# Altium integrated library Diodes - TVS.IntLib: 5379 symbols (part 20 of 122)
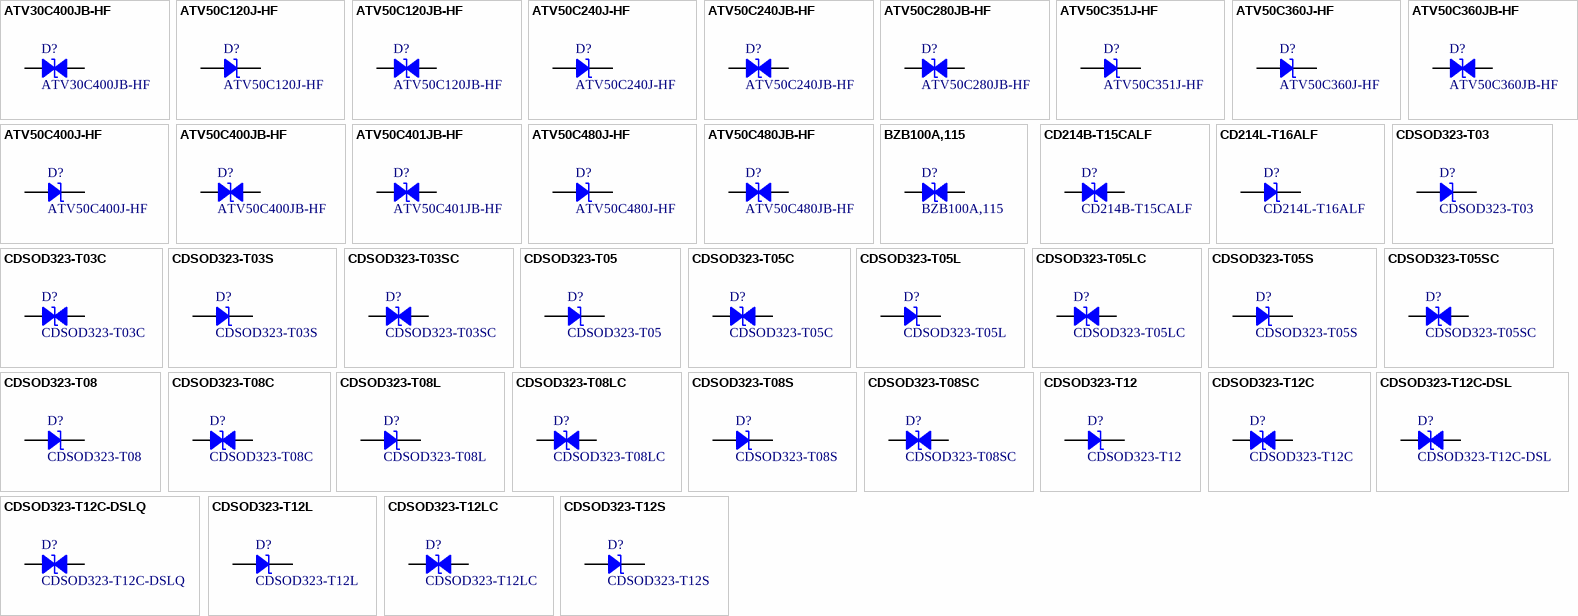
[diagram p153: symbols ATV30C400JB-HF to CDSOD323-T12S]

## CDSOD323-T12LC
designator D?
TVS DIODE 12V 28.6V SOD323; Manufacturer: Bourns Inc.; Bidirectional Channels: 1; Capacitance @ Frequency: 1pF @ 1MHz; Current - Peak Pulse (10/1000µs): 11A (8/20µs); Power Line Protection: No; Power - Peak Pulse: 250W; Type: Zener; Voltage - Breakdown (Min): 13.3V; Voltage - Clamping (Max) @ Ipp: 28.6V (Typ); Part Number: CDSOD323-T12LC; Applications: HDMI, USB OTG; ComponentLink1Description: Datasheet; ComponentLink1URL: https://www.bourns.com/docs/Product-Datasheets/CDSOD323-TxxLC.pdf; ComponentLink2Description: DigiKey Link; ComponentLink2URL: http://digikey.com/product-detail/en/bourns-inc/CDSOD323-T12LC/CDSOD323-T12LCCT-ND/3742032; LastUpdated: 9/2/2020 1:28:28 AM; Lifecycle Status: Active; Minimum Order: 1; Mounting Type: Surface Mount; Operating Temperature: -55°C ~ 150°C (TJ); Package / Case: SC-76, SOD-323; Packaging: TapeAndReel; PartId: 9918; Part Status: Active; Price: 0.29; Series: -; Supplier 1: DigiKey; Supplier Part Number 1: CDSOD323-T12LCCT-ND; Supplier Device Package: SOD-323; Voltage - Reverse Standoff (Typ): 12V
footprint SOD323
pins: 1, 2

## CDSOD323-T12S
designator D?
TVS DIODE 12V 25.9V SOD323; Manufacturer: Bourns Inc.; Capacitance @ Frequency: 150pF @ 1MHz; Current - Peak Pulse (10/1000µs): 21A (8/20µs); Power Line Protection: No; Power - Peak Pulse: 500W; Type: SC-76, SOD-323; Unidirectional Channels: 1; Voltage - Breakdown (Min): 13.3V; Voltage - Clamping (Max) @ Ipp: 25.9V (Typ); Part Number: CDSOD323-T12S; Applications: General Purpose; ComponentLink1Description: Datasheet; ComponentLink1URL: https://www.bourns.com/docs/Product-Datasheets/CDSOD323-TxxSC.pdf; ComponentLink2Description: DigiKey Link; ComponentLink2URL: http://digikey.com/product-detail/en/bourns-inc/CDSOD323-T12S/CDSOD323-T12S-ND/3781958; LastUpdated: 9/2/2020 1:28:26 AM; Lifecycle Status: Active; Minimum Order: 3000; Mounting Type: Surface Mount; Operating Temperature: -55°C ~ 150°C (TJ); Package / Case: SC-76, SOD-323; Packaging: TapeAndReel; PartId: 9835; Part Status: -55°C ~ 150°C (TJ); Price: 0.18; Series: -; Supplier 1: DigiKey; Supplier Part Number 1: CDSOD323-T12S-ND; Supplier Device Package: SOD-323; Voltage - Reverse Standoff (Typ): 12V
footprint SOD323
pins: 1, 2

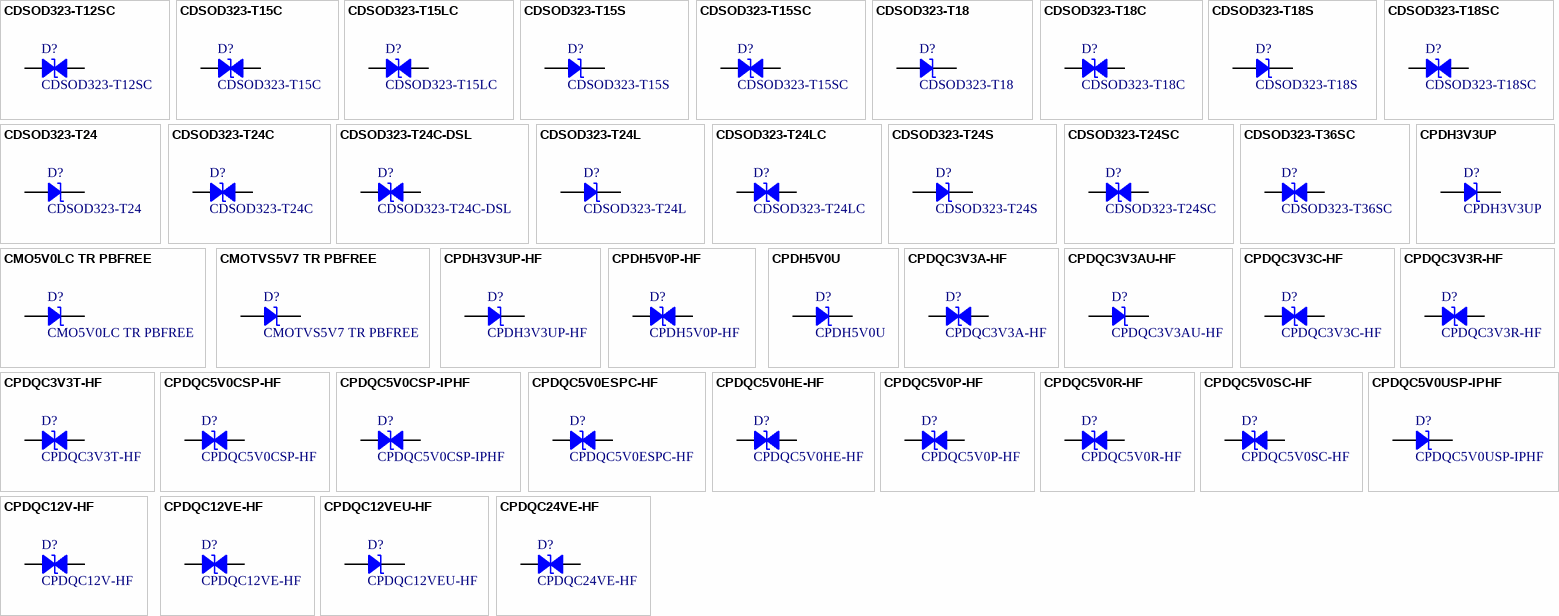
[diagram p21: symbols CDSOD323-T12SC to CPDQC24VE-HF]

## CDSOD323-T12SC
designator D?
TVS DIODE 12V 29.5V SOD323; Manufacturer: Bourns Inc.; Bidirectional Channels: 1; Capacitance @ Frequency: 50pF @ 1MHz; Current - Peak Pulse (10/1000µs): 14A (8/20µs); Power Line Protection: No; Power - Peak Pulse: 400W; Type: Zener; Voltage - Breakdown (Min): 13.3V; Voltage - Clamping (Max) @ Ipp: 29.5V (Typ); Part Number: CDSOD323-T12SC; Applications: General Purpose; ComponentLink1Description: Datasheet; ComponentLink1URL: https://www.bourns.com/docs/Product-Datasheets/CDSOD323-TxxSC.pdf; ComponentLink2Description: DigiKey Link; ComponentLink2URL: http://digikey.com/product-detail/en/bourns-inc/CDSOD323-T12SC/CDSOD323-T12SCCT-ND/3742033; LastUpdated: 9/2/2020 1:28:29 AM; Lifecycle Status: Active; Minimum Order: 1; Mounting Type: Surface Mount; Operating Temperature: -55°C ~ 150°C (TJ); Package / Case: SC-76, SOD-323; Packaging: TapeAndReel; PartId: 9956; Part Status: Active; Price: 0.23; Series: -; Supplier 1: DigiKey; Supplier Part Number 1: CDSOD323-T12SCCT-ND; Supplier Device Package: SOD-323; Voltage - Reverse Standoff (Typ): 12V
footprint SOD323
pins: 1, 2

## CDSOD323-T15C
designator D?
TVS DIODE 15V 31.8V SOD323; Manufacturer: Bourns Inc.; Bidirectional Channels: 1; Capacitance @ Frequency: 3pF @ 1MHz; Current - Peak Pulse (10/1000µs): 10A (8/20µs); Power Line Protection: No; Power - Peak Pulse: 350W; Type: Zener; Voltage - Breakdown (Min): 16.7V; Voltage - Clamping (Max) @ Ipp: 31.8V (Typ); Part Number: CDSOD323-T15C; Applications: General Purpose; ComponentLink1Description: Datasheet; ComponentLink1URL: https://www.bourns.com/docs/Product-Datasheets/CDSOD323-TxxC.PDF; ComponentLink2Description: DigiKey Link; ComponentLink2URL: http://digikey.com/product-detail/en/bourns-inc/CDSOD323-T15C/CDSOD323-T15CCT-ND/3742034; LastUpdated: 9/2/2020 1:28:29 AM; Lifecycle Status: Active; Minimum Order: 1; Mounting Type: Surface Mount; Operating Temperature: -55°C ~ 150°C (TJ); Package / Case: SC-76, SOD-323; Packaging: TapeAndReel; PartId: 9946; Part Status: Active; Price: 0.26; Series: -; Supplier 1: DigiKey; Supplier Part Number 1: CDSOD323-T15CCT-ND; Supplier Device Package: SOD-323; Voltage - Reverse Standoff (Typ): 15V
footprint SOD323
pins: 1, 2

## CDSOD323-T15LC
designator D?
TVS DIODE 15V 31.8V SOD323; Manufacturer: Bourns Inc.; Bidirectional Channels: 1; Capacitance @ Frequency: 1pF @ 1MHz; Current - Peak Pulse (10/1000µs): 10A (8/20µs); Power Line Protection: No; Power - Peak Pulse: 250W; Type: Zener; Voltage - Breakdown (Min): 16.7V; Voltage - Clamping (Max) @ Ipp: 31.8V (Typ); Part Number: CDSOD323-T15LC; Applications: HDMI, USB OTG; ComponentLink1Description: Datasheet; ComponentLink1URL: https://www.bourns.com/docs/Product-Datasheets/CDSOD323-TxxLC.pdf; ComponentLink2Description: DigiKey Link; ComponentLink2URL: http://digikey.com/product-detail/en/bourns-inc/CDSOD323-T15LC/CDSOD323-T15LCCT-ND/3997647; LastUpdated: 9/2/2020 1:28:29 AM; Lifecycle Status: Active; Minimum Order: 1; Mounting Type: Surface Mount; Operating Temperature: -55°C ~ 150°C (TJ); Package / Case: SC-76, SOD-323; Packaging: TapeAndReel; PartId: 9935; Part Status: Active; Price: 0.29; Series: -; Supplier 1: DigiKey; Supplier Part Number 1: CDSOD323-T15LCCT-ND; Supplier Device Package: SOD-323; Voltage - Reverse Standoff (Typ): 15V
footprint SOD323
pins: 1, 2

## CDSOD323-T15S
designator D?
TVS DIODE 15V 30V SOD323; Manufacturer: Bourns Inc.; Capacitance @ Frequency: 100pF @ 1MHz; Current - Peak Pulse (10/1000µs): 17A (8/20µs); Power Line Protection: No; Power - Peak Pulse: 500W; Type: Zener; Unidirectional Channels: 1; Voltage - Breakdown (Min): 16.7V; Voltage - Clamping (Max) @ Ipp: 30V (Typ); Part Number: CDSOD323-T15S; Applications: General Purpose; ComponentLink1Description: Datasheet; ComponentLink1URL: https://www.bourns.com/docs/Product-Datasheets/CDSOD323-TxxSC.pdf; ComponentLink2Description: DigiKey Link; ComponentLink2URL: http://digikey.com/product-detail/en/bourns-inc/CDSOD323-T15S/CDSOD323-T15SCT-ND/5774995; LastUpdated: 9/2/2020 1:28:27 AM; Lifecycle Status: Active; Minimum Order: 1; Mounting Type: Surface Mount; Operating Temperature: -55°C ~ 150°C (TJ); Package / Case: SC-76, SOD-323; Packaging: TapeAndReel; PartId: 9891; Part Status: Active; Price: 0.22; Series: -; Supplier 1: DigiKey; Supplier Part Number 1: CDSOD323-T15SCT-ND; Supplier Device Package: SOD-323; Voltage - Reverse Standoff (Typ): 15V
footprint SOD323
pins: 1, 2

## CDSOD323-T15SC
designator D?
TVS DIODE 15V 33V SOD323; Manufacturer: Bourns Inc.; Bidirectional Channels: 1; Capacitance @ Frequency: 40pF @ 1MHz; Current - Peak Pulse (10/1000µs): 12A (8/20µs); Power Line Protection: No; Power - Peak Pulse: 400W; Type: Zener; Voltage - Breakdown (Min): 16.7V; Voltage - Clamping (Max) @ Ipp: 33V (Typ); Part Number: CDSOD323-T15SC; Applications: General Purpose; ComponentLink1Description: Datasheet; ComponentLink1URL: https://www.bourns.com/docs/Product-Datasheets/CDSOD323-TxxSC.pdf; ComponentLink2Description: DigiKey Link; ComponentLink2URL: http://digikey.com/product-detail/en/bourns-inc/CDSOD323-T15SC/CDSOD323-T15SCCT-ND/3742035; LastUpdated: 9/2/2020 1:28:29 AM; Lifecycle Status: Active; Minimum Order: 1; Mounting Type: Surface Mount; Operating Temperature: -55°C ~ 150°C (TJ); Package / Case: SC-76, SOD-323; Packaging: TapeAndReel; PartId: 9953; Part Status: Active; Price: 0.23; Series: -; Supplier 1: DigiKey; Supplier Part Number 1: CDSOD323-T15SCCT-ND; Supplier Device Package: SOD-323; Voltage - Reverse Standoff (Typ): 15V
footprint SOD323
pins: 1, 2

## CDSOD323-T18
designator D?
TVS DIODE 18V 45V SOD323; Manufacturer: Bourns Inc.; Capacitance @ Frequency: 3pF @ 1MHz; Current - Peak Pulse (10/1000µs): 8A (8/20µs); Power Line Protection: No; Power - Peak Pulse: 350W; Type: Zener; Unidirectional Channels: 1; Voltage - Breakdown (Min): 20V; Voltage - Clamping (Max) @ Ipp: 45V (Typ); Part Number: CDSOD323-T18; Applications: General Purpose; ComponentLink1Description: Datasheet; ComponentLink1URL: https://www.bourns.com/docs/Product-Datasheets/CDSOD323-TxxC.PDF; ComponentLink2Description: DigiKey Link; ComponentLink2URL: http://digikey.com/product-detail/en/bourns-inc/CDSOD323-T18/CDSOD323-T18CT-ND/3974420; LastUpdated: 9/2/2020 1:28:26 AM; Lifecycle Status: Active; Minimum Order: 1; Mounting Type: Surface Mount; Operating Temperature: -55°C ~ 150°C (TJ); Package / Case: SC-76, SOD-323; Packaging: TapeAndReel; PartId: 9853; Part Status: Active; Price: 0.24; Series: -; Supplier 1: DigiKey; Supplier Part Number 1: CDSOD323-T18CT-ND; Supplier Device Package: SOD-323; Voltage - Reverse Standoff (Typ): 18V
footprint SOD323
pins: 1, 2

## CDSOD323-T18C
designator D?
TVS DIODE 18V 45V SOD323; Manufacturer: Bourns Inc.; Bidirectional Channels: 1; Capacitance @ Frequency: 3pF @ 1MHz; Current - Peak Pulse (10/1000µs): 8A (8/20µs); Power Line Protection: No; Power - Peak Pulse: 350W; Type: Zener; Voltage - Breakdown (Min): 20V; Voltage - Clamping (Max) @ Ipp: 45V (Typ); Part Number: CDSOD323-T18C; Applications: General Purpose; ComponentLink1Description: Datasheet; ComponentLink1URL: https://www.bourns.com/docs/Product-Datasheets/CDSOD323-TxxC.PDF; ComponentLink2Description: DigiKey Link; ComponentLink2URL: http://digikey.com/product-detail/en/bourns-inc/CDSOD323-T18C/CDSOD323-T18CCT-ND/5355719; LastUpdated: 9/2/2020 1:28:29 AM; Lifecycle Status: Active; Minimum Order: 1; Mounting Type: Surface Mount; Operating Temperature: -55°C ~ 150°C (TJ); Package / Case: SC-76, SOD-323; Packaging: TapeAndReel; PartId: 9944; Part Status: Active; Price: 0.26; Series: -; Supplier 1: DigiKey; Supplier Part Number 1: CDSOD323-T18CCT-ND; Supplier Device Package: SOD-323; Voltage - Reverse Standoff (Typ): 18V
footprint SOD323
pins: 1, 2

## CDSOD323-T18S
designator D?
TVS DIODE 18V 40V SOD323; Manufacturer: Bourns Inc.; Capacitance @ Frequency: 90pF @ 1MHz; Current - Peak Pulse (10/1000µs): 9A (8/20µs); Power Line Protection: No; Power - Peak Pulse: 500W; Type: Zener; Unidirectional Channels: 1; Voltage - Breakdown (Min): 20V; Voltage - Clamping (Max) @ Ipp: 40V (Typ); Part Number: CDSOD323-T18S; Applications: General Purpose; ComponentLink1Description: Datasheet; ComponentLink1URL: https://www.bourns.com/docs/Product-Datasheets/CDSOD323-TxxSC.pdf; ComponentLink2Description: DigiKey Link; ComponentLink2URL: http://digikey.com/product-detail/en/bourns-inc/CDSOD323-T18S/CDSOD323-T18SCT-ND/5774996; LastUpdated: 9/2/2020 1:28:27 AM; Lifecycle Status: Active; Minimum Order: 1; Mounting Type: Surface Mount; Operating Temperature: -55°C ~ 150°C (TJ); Package / Case: SC-76, SOD-323; Packaging: TapeAndReel; PartId: 9890; Part Status: Active; Price: 0.22; Series: -; Supplier 1: DigiKey; Supplier Part Number 1: CDSOD323-T18SCT-ND; Supplier Device Package: SOD-323; Voltage - Reverse Standoff (Typ): 18V
footprint SOD323
pins: 1, 2

## CDSOD323-T18SC
designator D?
TVS DIODE 18V 40V SOD323; Manufacturer: Bourns Inc.; Bidirectional Channels: 1; Capacitance @ Frequency: 40pF @ 1MHz; Current - Peak Pulse (10/1000µs): 9A (8/20µs); Power Line Protection: No; Power - Peak Pulse: 400W; Type: Zener; Voltage - Breakdown (Min): 20V; Voltage - Clamping (Max) @ Ipp: 40V (Typ); Part Number: CDSOD323-T18SC; Applications: General Purpose; ComponentLink1Description: Datasheet; ComponentLink1URL: https://www.bourns.com/docs/Product-Datasheets/CDSOD323-TxxSC.pdf; ComponentLink2Description: DigiKey Link; ComponentLink2URL: http://digikey.com/product-detail/en/bourns-inc/CDSOD323-T18SC/CDSOD323-T18SCCT-ND/6679633; LastUpdated: 9/2/2020 1:28:29 AM; Lifecycle Status: Active; Minimum Order: 1; Mounting Type: Surface Mount; Operating Temperature: -55°C ~ 150°C (TJ); Package / Case: SC-76, SOD-323; Packaging: TapeAndReel; PartId: 9972; Part Status: Active; Price: 0.23; Series: -; Supplier 1: DigiKey; Supplier Part Number 1: CDSOD323-T18SCCT-ND; Supplier Device Package: SOD-323; Voltage - Reverse Standoff (Typ): 18V
footprint SOD323
pins: 1, 2

## CDSOD323-T24
designator D?
TVS DIODE 24V 56V SOD323; Manufacturer: Bourns Inc.; Capacitance @ Frequency: 3pF @ 1MHz; Current - Peak Pulse (10/1000µs): 6A (8/20µs); Power Line Protection: No; Power - Peak Pulse: 350W; Type: Zener; Unidirectional Channels: 1; Voltage - Breakdown (Min): 26.7V; Voltage - Clamping (Max) @ Ipp: 56V (Typ); Part Number: CDSOD323-T24; Applications: General Purpose; ComponentLink1Description: Datasheet; ComponentLink1URL: https://www.bourns.com/docs/Product-Datasheets/CDSOD323-TxxC.PDF; ComponentLink2Description: DigiKey Link; ComponentLink2URL: http://digikey.com/product-detail/en/bourns-inc/CDSOD323-T24/CDSOD323-T24CT-ND/6679634; LastUpdated: 9/2/2020 1:28:27 AM; Lifecycle Status: Active; Minimum Order: 1; Mounting Type: Surface Mount; Operating Temperature: -55°C ~ 150°C (TJ); Package / Case: SC-76, SOD-323; Packaging: TapeAndReel; PartId: 9909; Part Status: Active; Price: 0.24; Series: -; Supplier 1: DigiKey; Supplier Part Number 1: CDSOD323-T24CT-ND; Supplier Device Package: SOD-323; Voltage - Reverse Standoff (Typ): 24V
footprint SOD323
pins: 1, 2

## CDSOD323-T24C
designator D?
TVS DIODE 24V 56V SOD323; Manufacturer: Bourns Inc.; Bidirectional Channels: 1; Capacitance @ Frequency: 3pF @ 1MHz; Current - Peak Pulse (10/1000µs): 6A (8/20µs); Power Line Protection: No; Power - Peak Pulse: 350W; Type: Zener; Voltage - Breakdown (Min): 26.7V; Voltage - Clamping (Max) @ Ipp: 56V (Typ); Part Number: CDSOD323-T24C; Applications: General Purpose; ComponentLink1Description: Datasheet; ComponentLink1URL: https://www.bourns.com/docs/Product-Datasheets/CDSOD323-TxxC.PDF; ComponentLink2Description: DigiKey Link; ComponentLink2URL: http://digikey.com/product-detail/en/bourns-inc/CDSOD323-T24C/CDSOD323-T24CCT-ND/3742036; LastUpdated: 9/2/2020 1:28:29 AM; Lifecycle Status: Active; Minimum Order: 1; Mounting Type: Surface Mount; Operating Temperature: -55°C ~ 150°C (TJ); Package / Case: SC-76, SOD-323; Packaging: TapeAndReel; PartId: 9945; Part Status: Active; Price: 0.26; Series: -; Supplier 1: DigiKey; Supplier Part Number 1: CDSOD323-T24CCT-ND; Supplier Device Package: SOD-323; Voltage - Reverse Standoff (Typ): 24V
footprint SOD323
pins: 1, 2

## CDSOD323-T24C-DSL
designator D?
TVS DIODE 24V 56V SOD323; Manufacturer: Bourns Inc.; Bidirectional Channels: 1; Capacitance @ Frequency: 3pF @ 1MHz; Current - Peak Pulse (10/1000µs): 6A (8/20µs); Power Line Protection: No; Power - Peak Pulse: 350W; Type: Zener; Voltage - Breakdown (Min): 26.7V; Voltage - Clamping (Max) @ Ipp: 56V (Typ); Part Number: CDSOD323-T24C-DSL; Applications: General Purpose; ComponentLink1Description: Datasheet; ComponentLink1URL: https://www.bourns.com/docs/Product-Datasheets/CDSOD323-TxxC-DSL.pdf; ComponentLink2Description: DigiKey Link; ComponentLink2URL: http://digikey.com/product-detail/en/bourns-inc/CDSOD323-T24C-DSL/CDSOD323-T24C-DSLCT-ND/2773464; LastUpdated: 9/2/2020 1:28:29 AM; Lifecycle Status: Active; Minimum Order: 1; Mounting Type: Surface Mount; Operating Temperature: -55°C ~ 150°C (TJ); Package / Case: SC-76, SOD-323; Packaging: TapeAndReel; PartId: 9934; Part Status: Active; Price: 0.29; Series: -; Supplier 1: DigiKey; Supplier Part Number 1: CDSOD323-T24C-DSLCT-ND; Supplier Device Package: SOD-323; Voltage - Reverse Standoff (Typ): 24V
footprint SOD323
pins: 1, 2

## CDSOD323-T24L
designator D?
TVS DIODE 24V 56V SOD323; Manufacturer: Bourns Inc.; Capacitance @ Frequency: 1pF @ 1MHz; Current - Peak Pulse (10/1000µs): 6A (8/20µs); Power Line Protection: No; Power - Peak Pulse: 350W; Type: Zener; Unidirectional Channels: 1; Voltage - Breakdown (Min): 26.7V; Voltage - Clamping (Max) @ Ipp: 56V (Typ); Part Number: CDSOD323-T24L; Applications: HDMI, USB OTG; ComponentLink1Description: Datasheet; ComponentLink1URL: https://www.bourns.com/docs/Product-Datasheets/CDSOD323-TxxLC.pdf; ComponentLink2Description: DigiKey Link; ComponentLink2URL: http://digikey.com/product-detail/en/bourns-inc/CDSOD323-T24L/CDSOD323-T24LCT-ND/5774997; LastUpdated: 9/2/2020 1:28:27 AM; Lifecycle Status: Active; Minimum Order: 1; Mounting Type: Surface Mount; Operating Temperature: -55°C ~ 150°C (TJ); Package / Case: SC-76, SOD-323; Packaging: TapeAndReel; PartId: 9907; Part Status: Active; Price: 0.29; Series: -; Supplier 1: DigiKey; Supplier Part Number 1: CDSOD323-T24LCT-ND; Supplier Device Package: SOD-323; Voltage - Reverse Standoff (Typ): 24V
footprint SOD323
pins: 1, 2

## CDSOD323-T24LC
designator D?
TVS DIODE 24V 56V SOD323; Manufacturer: Bourns Inc.; Bidirectional Channels: 1; Capacitance @ Frequency: 1pF @ 1MHz; Current - Peak Pulse (10/1000µs): 6A (8/20µs); Power Line Protection: No; Power - Peak Pulse: 250W; Type: Zener; Voltage - Breakdown (Min): 26.7V; Voltage - Clamping (Max) @ Ipp: 56V (Typ); Part Number: CDSOD323-T24LC; Applications: HDMI, USB OTG; ComponentLink1Description: Datasheet; ComponentLink1URL: https://www.bourns.com/docs/Product-Datasheets/CDSOD323-TxxLC.pdf; ComponentLink2Description: DigiKey Link; ComponentLink2URL: http://digikey.com/product-detail/en/bourns-inc/CDSOD323-T24LC/CDSOD323-T24LCCT-ND/5774998; LastUpdated: 9/2/2020 1:28:29 AM; Lifecycle Status: Active; Minimum Order: 1; Mounting Type: Surface Mount; Operating Temperature: -55°C ~ 150°C (TJ); Package / Case: SC-76, SOD-323; Packaging: TapeAndReel; PartId: 9933; Part Status: Active; Price: 0.29; Series: -; Supplier 1: DigiKey; Supplier Part Number 1: CDSOD323-T24LCCT-ND; Supplier Device Package: SOD-323; Voltage - Reverse Standoff (Typ): 24V
footprint SOD323
pins: 1, 2

## CDSOD323-T24S
designator D?
TVS DIODE 24V 49V SOD323; Manufacturer: Bourns Inc.; Capacitance @ Frequency: 88pF @ 1MHz; Current - Peak Pulse (10/1000µs): 12A (8/20µs); Power Line Protection: No; Power - Peak Pulse: 500W; Type: Zener; Unidirectional Channels: 1; Voltage - Breakdown (Min): 26.7V; Voltage - Clamping (Max) @ Ipp: 49V (Typ); Part Number: CDSOD323-T24S; Applications: General Purpose; ComponentLink1Description: Datasheet; ComponentLink1URL: https://www.bourns.com/docs/Product-Datasheets/CDSOD323-TxxSC.pdf; ComponentLink2Description: DigiKey Link; ComponentLink2URL: http://digikey.com/product-detail/en/bourns-inc/CDSOD323-T24S/CDSOD323-T24SCT-ND/6679635; LastUpdated: 9/2/2020 1:28:27 AM; Lifecycle Status: Active; Minimum Order: 1; Mounting Type: Surface Mount; Operating Temperature: -55°C ~ 150°C (TJ); Package / Case: SC-76, SOD-323; Packaging: TapeAndReel; PartId: 9889; Part Status: Active; Price: 0.22; Series: -; Supplier 1: DigiKey; Supplier Part Number 1: CDSOD323-T24SCT-ND; Supplier Device Package: SOD-323; Voltage - Reverse Standoff (Typ): 24V
footprint SOD323
pins: 1, 2

## CDSOD323-T24SC
designator D?
TVS DIODE 24V 46.2V SOD323; Manufacturer: Bourns Inc.; Bidirectional Channels: 1; Capacitance @ Frequency: 40pF @ 1MHz; Current - Peak Pulse (10/1000µs): 9A (8/20µs); Power Line Protection: No; Power - Peak Pulse: 400W; Type: Zener; Voltage - Breakdown (Min): 26.7V; Voltage - Clamping (Max) @ Ipp: 46.2V (Typ); Part Number: CDSOD323-T24SC; Applications: General Purpose; ComponentLink1Description: Datasheet; ComponentLink1URL: https://www.bourns.com/docs/Product-Datasheets/CDSOD323-TxxSC.pdf; ComponentLink2Description: DigiKey Link; ComponentLink2URL: http://digikey.com/product-detail/en/bourns-inc/CDSOD323-T24SC/CDSOD323-T24SCCT-ND/3997650; LastUpdated: 9/2/2020 1:28:29 AM; Lifecycle Status: Active; Minimum Order: 1; Mounting Type: Surface Mount; Operating Temperature: -55°C ~ 150°C (TJ); Package / Case: SC-76, SOD-323; Packaging: TapeAndReel; PartId: 9951; Part Status: Active; Price: 0.23; Series: -; Supplier 1: DigiKey; Supplier Part Number 1: CDSOD323-T24SCCT-ND; Supplier Device Package: SOD-323; Voltage - Reverse Standoff (Typ): 24V
footprint SOD323
pins: 1, 2

## CDSOD323-T36SC
designator D?
TVS DIODE 36V 75V SOD323; Manufacturer: Bourns Inc.; Bidirectional Channels: 1; Capacitance @ Frequency: 35pF @ 1MHz; Current - Peak Pulse (10/1000µs): 5A (8/20µs); Power Line Protection: No; Power - Peak Pulse: 400W; Type: Zener; Voltage - Breakdown (Min): 40V; Voltage - Clamping (Max) @ Ipp: 75V (Typ); Part Number: CDSOD323-T36SC; Applications: General Purpose; ComponentLink1Description: Datasheet; ComponentLink1URL: https://www.bourns.com/docs/Product-Datasheets/CDSOD323-TxxSC.pdf; ComponentLink2Description: DigiKey Link; ComponentLink2URL: http://digikey.com/product-detail/en/bourns-inc/CDSOD323-T36SC/CDSOD323-T36SCCT-ND/3997649; LastUpdated: 9/2/2020 1:28:29 AM; Lifecycle Status: Active; Minimum Order: 1; Mounting Type: Surface Mount; Operating Temperature: -55°C ~ 150°C (TJ); Package / Case: SC-76, SOD-323; Packaging: TapeAndReel; PartId: 9954; Part Status: Active; Price: 0.23; Series: -; Supplier 1: DigiKey; Supplier Part Number 1: CDSOD323-T36SCCT-ND; Supplier Device Package: SOD-323; Voltage - Reverse Standoff (Typ): 36V
footprint SOD323
pins: 1, 2

## CMO5V0LC TR PBFREE
designator D?
TVS DIODE 5V 12V SOD523; Manufacturer: Central Semiconductor Corp; Current - Peak Pulse (10/1000µs): 1A (8/20µs); Power Line Protection: No; Power - Peak Pulse: 12W; Type: Zener; Unidirectional Channels: 1; Voltage - Breakdown (Min): 6V; Voltage - Reverse Standoff (Typ): 5V (Max); Part Number: CMO5V0LC TR PBFREE; Applications: General Purpose; ComponentLink1Description: Datasheet; ComponentLink1URL: https://my.centralsemi.com/get_document.php?cmp=1&mergetype=pd&mergepath=pd&pdf_id=CMO5V0LC.PDF; ComponentLink2Description: DigiKey Link; ComponentLink2URL: http://digikey.com/product-detail/en/central-semiconductor-corp/CMO5V0LC-TR-PBFREE/1514-CMO5V0LCTRPBFREECT-ND/4807017; LastUpdated: 9/2/2020 1:28:24 AM; Lifecycle Status: Active; Minimum Order: 1; Mounting Type: Surface Mount; Operating Temperature: -55°C ~ 125°C (TJ); Package / Case: SC-79, SOD-523; Packaging: CutTape; PartId: 9743; Part Status: Active; Price: 0.54; Series: -; Supplier 1: DigiKey; Supplier Part Number 1: 1514-CMO5V0LCTRPBFREECT-ND; Supplier Device Package: SOD-523; Voltage - Clamping (Max) @ Ipp: 12V
footprint SOD523F
pins: 1, 2

## CMOTVS5V7 TR PBFREE
designator D?
TVS DIODE 4V 12V SOD523; Manufacturer: Central Semiconductor Corp; Current - Peak Pulse (10/1000µs): 5.5A (8/20µs); Power Line Protection: No; Power - Peak Pulse: 66W; Type: Zener; Unidirectional Channels: 1; Voltage - Breakdown (Min): 5.7V; Voltage - Reverse Standoff (Typ): 4V (Max); Part Number: CMOTVS5V7 TR PBFREE; Applications: General Purpose; ComponentLink1Description: Datasheet; ComponentLink1URL: https://my.centralsemi.com/get_document.php?cmp=1&mergetype=pd&mergepath=pd&pdf_id=CMOTVS5V7.PDF; ComponentLink2Description: DigiKey Link; ComponentLink2URL: http://digikey.com/product-detail/en/central-semiconductor-corp/CMOTVS5V7-TR-PBFREE/1514-CMOTVS5V7TRPBFREECT-ND/4807024; LastUpdated: 9/2/2020 1:28:24 AM; Lifecycle Status: Active; Minimum Order: 1; Mounting Type: Surface Mount; Operating Temperature: -55°C ~ 150°C (TJ); Package / Case: SC-79, SOD-523; Packaging: TapeAndReel; PartId: 9742; Part Status: Active; Price: 0.16; Series: -; Supplier 1: DigiKey; Supplier Part Number 1: 1514-CMOTVS5V7TRPBFREECT-ND; Supplier Device Package: SOD-523; Voltage - Clamping (Max) @ Ipp: 12V
footprint SOD523F
pins: 1, 2

## CPDH3V3UP
designator D?
TVS DIODE 3.3V 8V SOD523; Manufacturer: Comchip Technology; Capacitance @ Frequency: 12pF @ 1MHz; Current - Peak Pulse (10/1000µs): 5A (8/20µs); Power Line Protection: No; Power - Peak Pulse: 40W; Type: Zener; Unidirectional Channels: 1; Voltage - Reverse Standoff (Typ): 3.3V (Max); Part Number: CPDH3V3UP; Applications: General Purpose; ComponentLink1Description: Datasheet; ComponentLink1URL: http://www.comchiptech.com/admin/files/product/CPDH3V3UP-HF RevB034941.pdf; ComponentLink2Description: DigiKey Link; ComponentLink2URL: http://digikey.com/product-detail/en/comchip-technology/CPDH3V3UP/641-1395-1-ND/2075759; LastUpdated: 9/2/2020 1:28:24 AM; Lifecycle Status: Active; Minimum Order: 1; Mounting Type: Surface Mount; Operating Temperature: -55°C ~ 125°C (TJ); Package / Case: SC-79, SOD-523; Packaging: TapeAndReel; PartId: 9744; Part Status: Active; Price: 0.14; Series: -; Supplier 1: DigiKey; Supplier Part Number 1: 641-1395-1-ND; Supplier Device Package: SOD-523; Voltage - Clamping (Max) @ Ipp: 8V
footprint SOD523F
pins: 1, 2

## CPDH3V3UP-HF
designator D?
TVS DIODE 3.3V 8V SOD523; Manufacturer: Comchip Technology; Capacitance @ Frequency: 12pF @ 1MHz; Current - Peak Pulse (10/1000µs): 5A (8/20µs); Power Line Protection: No; Power - Peak Pulse: 40W; Type: Zener; Unidirectional Channels: 1; Part Number: CPDH3V3UP-HF; Applications: General Purpose; ComponentLink1Description: Datasheet; ComponentLink1URL: http://www.comchiptech.com/admin/files/product/CPDH3V3UP-HF RevB034941.pdf; ComponentLink2Description: DigiKey Link; ComponentLink2URL: http://digikey.com/product-detail/en/comchip-technology/CPDH3V3UP-HF/641-1486-1-ND/4171834; LastUpdated: 9/2/2020 1:28:24 AM; Lifecycle Status: Active; Minimum Order: 1; Mounting Type: Surface Mount; Operating Temperature: -55°C ~ 125°C (TJ); Package / Case: SC-79, SOD-523; Packaging: TapeAndReel; PartId: 9810; Part Status: Active; Price: 0.14; Series: -; Supplier 1: DigiKey; Supplier Part Number 1: 641-1486-1-ND; Supplier Device Package: SOD-523; Voltage - Clamping (Max) @ Ipp: 8V; Voltage - Reverse Standoff (Typ): 3.3V
footprint SOD523F
pins: 1, 2

## CPDH5V0P-HF
designator D?
TVS DIODE 5V 13V SOD523; Manufacturer: Comchip Technology; Bidirectional Channels: 1; Capacitance @ Frequency: 3pF @ 1MHz; Current - Peak Pulse (10/1000µs): 3A (8/20µs); Power Line Protection: No; Power - Peak Pulse: 39W; Type: Zener; Voltage - Breakdown (Min): 5.6V; Voltage - Reverse Standoff (Typ): 5V (Max); Part Number: CPDH5V0P-HF; Applications: General Purpose; ComponentLink1Description: Datasheet; ComponentLink1URL: http://www.comchiptech.com/admin/files/product/CPDH5V0P-HF RevA006229.pdf; ComponentLink2Description: DigiKey Link; ComponentLink2URL: http://digikey.com/product-detail/en/comchip-technology/CPDH5V0P-HF/641-1774-1-ND/6138938; LastUpdated: 9/2/2020 1:28:25 AM; Lifecycle Status: Active; Minimum Order: 1; Mounting Type: Surface Mount; Operating Temperature: -40°C ~ 150°C (TJ); Package / Case: SC-79, SOD-523; Packaging: TapeAndReel; PartId: 9833; Part Status: Active; Price: 0.04; Series: -; Supplier 1: DigiKey; Supplier Part Number 1: 641-1774-1-ND; Supplier Device Package: SOD-523; Voltage - Clamping (Max) @ Ipp: 13V
footprint SOD523F
pins: 1, 2

## CPDH5V0U
designator D?
TVS DIODE 5V 12.5V SOD523; Manufacturer: Comchip Technology; Capacitance @ Frequency: 90pF @ 1MHz; Current - Peak Pulse (10/1000µs): 16A (8/20µs); Power Line Protection: No; Power - Peak Pulse: 200W; Type: Zener; Unidirectional Channels: 1; Voltage - Breakdown (Min): 6V; Part Number: CPDH5V0U; Applications: General Purpose; ComponentLink1Description: Datasheet; ComponentLink1URL: http://www.comchiptech.com/admin/files/product/CPDH5V0U-HF%20RevA551098.pdf; ComponentLink2Description: DigiKey Link; ComponentLink2URL: http://digikey.com/product-detail/en/comchip-technology/CPDH5V0U/641-1469-1-ND/3672587; LastUpdated: 9/2/2020 1:28:24 AM; Lifecycle Status: Active; Minimum Order: 1; Mounting Type: Surface Mount; Package / Case: SC-79, SOD-523; Packaging: TapeAndReel; PartId: 9776; Part Status: Active; Price: 0.07; Series: -; Supplier 1: DigiKey; Supplier Part Number 1: 641-1469-1-ND; Supplier Device Package: SOD-523; Voltage - Clamping (Max) @ Ipp: 12.5V; Voltage - Reverse Standoff (Typ): 5V
footprint SOD523F
pins: 1, 2

## CPDQC3V3A-HF
designator D?
ESD DIODE 3.3VWM 25VC 0402 SOD-9; Manufacturer: Comchip Technology; Bidirectional Channels: 1; Capacitance @ Frequency: 0.2pF @ 1MHz; Current - Peak Pulse (10/1000µs): 4A (8/20µs); Power Line Protection: Yes; Power - Peak Pulse: 100W; Type: Zener; Voltage - Breakdown (Min): 4.5V; Voltage - Clamping (Max) @ Ipp: 25V; Voltage - Reverse Standoff (Typ): 3.3V (Max); Part Number: CPDQC3V3A-HF; Applications: General Purpose; ComponentLink1Description: Datasheet; ComponentLink1URL: http://www.comchiptech.com/admin/files/product/12011_20190314142456.pdf; ComponentLink2Description: DigiKey Link; ComponentLink2URL: http://digikey.com/product-detail/en/comchip-technology/CPDQC3V3A-HF/641-2042-1-ND/10106893; Device Package: 0402 (1006 Metric); LastUpdated: 9/2/2020 1:28:49 AM; Lifecycle Status: Active; Minimum Order: 1; Mounting Type: Surface Mount; Operating Temperature: -55°C ~ 125°C (TJ); Package / Case: 0402 (1006 Metric); Packaging: TapeAndReel; PartId: 10482; Part Status: Active; Price: 0.06; Series: -; Supplier 1: DigiKey; Supplier Part Number 1: 641-2042-1-ND; Supplier Device Package: 0402C/SOD-923F
footprint 0402
pins: 1, 2

## CPDQC3V3AU-HF
designator D?
ESD DIODE 3.3VWM 14VC 0402 SOD-9; Manufacturer: Comchip Technology; Capacitance @ Frequency: 0.4pF @ 1MHz; Current - Peak Pulse (10/1000µs): 4A (8/20µs); Power Line Protection: No; Power - Peak Pulse: 56W; Type: Zener; Unidirectional Channels: 1; Voltage - Breakdown (Min): 4.2V; Voltage - Clamping (Max) @ Ipp: 14V; Voltage - Reverse Standoff (Typ): 3.3V (Max); Part Number: CPDQC3V3AU-HF; Applications: General Purpose; ComponentLink1Description: Datasheet; ComponentLink1URL: http://www.comchiptech.com/admin/files/product/12012_20190314142545.pdf; ComponentLink2Description: DigiKey Link; ComponentLink2URL: http://digikey.com/product-detail/en/comchip-technology/CPDQC3V3AU-HF/641-2043-1-ND/10106894; Device Package: 0402 (1006 Metric); LastUpdated: 9/2/2020 1:28:45 AM; Lifecycle Status: Active; Minimum Order: 1; Mounting Type: Surface Mount; Operating Temperature: -55°C ~ 125°C (TJ); Package / Case: 0402 (1006 Metric); Packaging: TapeAndReel; PartId: 10372; Part Status: Active; Price: 0.04; Series: -; Supplier 1: DigiKey; Supplier Part Number 1: 641-2043-1-ND; Supplier Device Package: 0402C/SOD-923F
footprint 0402
pins: 1, 2

## CPDQC3V3C-HF
designator D?
TVS DIODE 3.3V 13V 0402C/SOD923F; Manufacturer: Comchip Technology; Bidirectional Channels: 1; Capacitance @ Frequency: 6pF @ 1MHz; Current - Peak Pulse (10/1000µs): 5A (8/20µs); Power Line Protection: No; Power - Peak Pulse: 65W; Type: Zener; Voltage - Breakdown (Min): 3.6V; Voltage - Reverse Standoff (Typ): 3.3V (Max); Part Number: CPDQC3V3C-HF; Applications: General Purpose; ComponentLink1Description: Datasheet; ComponentLink1URL: http://www.comchiptech.com/admin/files/product/CPDQC3V3C-HF%20RevD050204.pdf; ComponentLink2Description: DigiKey Link; ComponentLink2URL: http://digikey.com/product-detail/en/comchip-technology/CPDQC3V3C-HF/641-1892-1-ND/7100790; Device Package: 0402 (1006 Metric); LastUpdated: 9/2/2020 1:28:49 AM; Lifecycle Status: Active; Minimum Order: 1; Mounting Type: Surface Mount; Operating Temperature: -55°C ~ 125°C (TJ); Package / Case: 0402 (1006 Metric); Packaging: TapeAndReel; PartId: 10463; Part Status: Active; Price: 0.06; Series: -; Supplier 1: DigiKey; Supplier Part Number 1: 641-1892-1-ND; Supplier Device Package: 0402C/SOD-923F; Voltage - Clamping (Max) @ Ipp: 13V
footprint 0402
pins: 1, 2

## CPDQC3V3R-HF
designator D?
ESD DIODE 3.3VWM 18VC 0402 SOD-9; Manufacturer: Comchip Technology; Bidirectional Channels: 1; Capacitance @ Frequency: 18pF @ 1MHz; Current - Peak Pulse (10/1000µs): 2A (8/20µs); Power Line Protection: No; Power - Peak Pulse: 36W; Type: Zener; Voltage - Breakdown (Min): 5V; Voltage - Clamping (Max) @ Ipp: 18V; Voltage - Reverse Standoff (Typ): 3.3V (Max); Part Number: CPDQC3V3R-HF; Applications: General Purpose; ComponentLink1Description: Datasheet; ComponentLink1URL: http://www.comchiptech.com/admin/files/product/12024_20190315100224.pdf; ComponentLink2Description: DigiKey Link; ComponentLink2URL: http://digikey.com/product-detail/en/comchip-technology/CPDQC3V3R-HF/641-2044-1-ND/10106895; Device Package: 0402 (1006 Metric); LastUpdated: 9/2/2020 1:28:49 AM; Lifecycle Status: Active; Minimum Order: 1; Mounting Type: Surface Mount; Operating Temperature: -55°C ~ 150°C (TJ); Package / Case: 0402 (1006 Metric); Packaging: TapeAndReel; PartId: 10485; Part Status: Active; Price: 0.05; Series: -; Supplier 1: DigiKey; Supplier Part Number 1: 641-2044-1-ND; Supplier Device Package: 0402C/SOD-923F
footprint 0402
pins: 1, 2

## CPDQC3V3T-HF
designator D?
TVS DIODE 3.3V 6.2V 0402C; Manufacturer: Comchip Technology; Bidirectional Channels: 1; Capacitance @ Frequency: 20pF @ 1MHz; Current - Peak Pulse (10/1000µs): 17A (8/20µs); Power Line Protection: No; Power - Peak Pulse: 180W; Type: Zener; Voltage - Breakdown (Min): 3.6V; Voltage - Reverse Standoff (Typ): 3.3V (Max); Part Number: CPDQC3V3T-HF; Applications: General Purpose; ComponentLink1Description: Datasheet; ComponentLink1URL: http://www.comchiptech.com/admin/files/product/CPDQC3V3T-HF RevC430538.pdf; ComponentLink2Description: DigiKey Link; ComponentLink2URL: http://digikey.com/product-detail/en/comchip-technology/CPDQC3V3T-HF/641-1893-1-ND/7100791; Device Package: 0402 (1006 Metric); LastUpdated: 9/2/2020 1:28:48 AM; Lifecycle Status: Active; Minimum Order: 1; Mounting Type: Surface Mount; Operating Temperature: -40°C ~ 125°C (TJ); Package / Case: 0402 (1006 Metric); Packaging: TapeAndReel; PartId: 10405; Part Status: Active; Price: 0.06; Series: -; Supplier 1: DigiKey; Supplier Part Number 1: 641-1893-1-ND; Supplier Device Package: 0402C/SOD-923F; Voltage - Clamping (Max) @ Ipp: 6.2V
footprint 0402
pins: 1, 2

## CPDQC5V0CSP-HF
designator D?
TVS DIODE 5V 20V 0402/SOD923F; Manufacturer: Comchip Technology; Bidirectional Channels: 1; Capacitance @ Frequency: 0.3pF @ 1MHz; Current - Peak Pulse (10/1000µs): 3A (8/20µs); Power Line Protection: No; Power - Peak Pulse: 60W; Type: Zener; Voltage - Breakdown (Min): 6V; Voltage - Reverse Standoff (Typ): 5V (Max); Part Number: CPDQC5V0CSP-HF; Applications: General Purpose; ComponentLink1Description: Datasheet; ComponentLink1URL: //media.digikey.com/pdf/Data%20Sheets/Comchip%20PDFs/CPDQC5V0CSP-HF.pdf; ComponentLink2Description: DigiKey Link; ComponentLink2URL: http://digikey.com/product-detail/en/comchip-technology/CPDQC5V0CSP-HF/641-1757-1-ND/5683890; Device Package: 0402 (1006 Metric); LastUpdated: 9/2/2020 1:28:48 AM; Lifecycle Status: Active; Minimum Order: 1; Mounting Type: Surface Mount; Operating Temperature: -55°C ~ 150°C (TJ); Package / Case: 0402 (1006 Metric); Packaging: TapeAndReel; PartId: 10435; Part Status: Active; Price: 0.08; Series: -; Supplier 1: DigiKey; Supplier Part Number 1: 641-1757-1-ND; Supplier Device Package: 0402/SOD-923F; Voltage - Clamping (Max) @ Ipp: 20V
footprint 0402
pins: 1, 2

## CPDQC5V0CSP-IPHF
designator D?
TVS DIODE 5V 18V 0402C/SOD923F; Manufacturer: Comchip Technology; Bidirectional Channels: 1; Capacitance @ Frequency: 0.15pF @ 1MHz; Current - Peak Pulse (10/1000µs): 2A (8/20µs); Power Line Protection: No; Power - Peak Pulse: 35W; Type: Zener; Voltage - Breakdown (Min): 7V; Voltage - Reverse Standoff (Typ): 5V (Max); Part Number: CPDQC5V0CSP-IPHF; Applications: General Purpose; ComponentLink1Description: Datasheet; ComponentLink1URL: http://www.comchiptech.com/admin/files/product/CPDQC5V0CSP-IPHF RevB675609.pdf; ComponentLink2Description: DigiKey Link; ComponentLink2URL: http://digikey.com/product-detail/en/comchip-technology/CPDQC5V0CSP-IPHF/641-1894-1-ND/7100792; Device Package: 0402 (1006 Metric); LastUpdated: 9/2/2020 1:28:48 AM; Lifecycle Status: Active; Minimum Order: 1; Mounting Type: Surface Mount; Operating Temperature: -55°C ~ 150°C (TJ); Package / Case: 0402 (1006 Metric); Packaging: TapeAndReel; PartId: 10431; Part Status: Active; Price: 0.08; Series: -; Supplier 1: DigiKey; Supplier Part Number 1: 641-1894-1-ND; Supplier Device Package: 0402C/SOD-923F; Voltage - Clamping (Max) @ Ipp: 18V
footprint 0402
pins: 1, 2

## CPDQC5V0ESPC-HF
designator D?
TVS DIODE 5V 25V 0402C/SOD923F; Manufacturer: Comchip Technology; Bidirectional Channels: 1; Capacitance @ Frequency: 0.28pF @ 1MHz; Current - Peak Pulse (10/1000µs): 4A (8/20µs); Power Line Protection: No; Power - Peak Pulse: 100W; Type: Zener; Voltage - Breakdown (Min): 7V; Voltage - Reverse Standoff (Typ): 5V (Max); Part Number: CPDQC5V0ESPC-HF; Applications: General Purpose; ComponentLink1Description: Datasheet; ComponentLink1URL: http://www.comchiptech.com/admin/files/product/CPDQC5V0ESPC-HF%20RevA940311.pdf; ComponentLink2Description: DigiKey Link; ComponentLink2URL: http://digikey.com/product-detail/en/comchip-technology/CPDQC5V0ESPC-HF/641-1895-1-ND/7100793; Device Package: 0402 (1006 Metric); LastUpdated: 9/2/2020 1:28:49 AM; Lifecycle Status: Active; Minimum Order: 1; Mounting Type: Surface Mount; Operating Temperature: -40°C ~ 125°C (TJ); Package / Case: 0402 (1006 Metric); Packaging: TapeAndReel; PartId: 10454; Part Status: Active; Price: 0.07; Series: -; Supplier 1: DigiKey; Supplier Part Number 1: 641-1895-1-ND; Supplier Device Package: 0402C/SOD-923F; Voltage - Clamping (Max) @ Ipp: 25V
footprint 0402
pins: 1, 2

## CPDQC5V0HE-HF
designator D?
TVS DIODE 5V 16V 0402C/SOD923F; Manufacturer: Comchip Technology; Bidirectional Channels: 1; Capacitance @ Frequency: 15pF @ 1MHz; Current - Peak Pulse (10/1000µs): 8A (8/20µs); Power Line Protection: No; Power - Peak Pulse: 128W; Type: Zener; Voltage - Breakdown (Min): 5.5V; Voltage - Reverse Standoff (Typ): 5V (Max); Part Number: CPDQC5V0HE-HF; Applications: General Purpose; ComponentLink1Description: Datasheet; ComponentLink1URL: http://www.comchiptech.com/admin/files/product/CPDQC5V0HE-HF RevC673360.pdf; ComponentLink2Description: DigiKey Link; ComponentLink2URL: http://digikey.com/product-detail/en/comchip-technology/CPDQC5V0HE-HF/641-1758-1-ND/5683891; Device Package: 0402 (1006 Metric); LastUpdated: 9/2/2020 1:28:48 AM; Lifecycle Status: Active; Minimum Order: 1; Mounting Type: Surface Mount; Operating Temperature: -40°C ~ 125°C (TJ); Package / Case: 0402 (1006 Metric); Packaging: CutTape; PartId: 10429; Part Status: Active; Price: 0.39; Series: -; Supplier 1: DigiKey; Supplier Part Number 1: 641-1758-1-ND; Supplier Device Package: 0402/SOD-923F; Voltage - Clamping (Max) @ Ipp: 16V
footprint 0402
pins: 1, 2

## CPDQC5V0P-HF
designator D?
TVS DIODE 5V 17V 0402/SOD923F; Manufacturer: Comchip Technology; Bidirectional Channels: 1; Capacitance @ Frequency: 6pF @ 1MHz; Current - Peak Pulse (10/1000µs): 5A (8/20µs); Power Line Protection: No; Power - Peak Pulse: 85W; Type: Zener; Voltage - Breakdown (Min): 5.6V; Voltage - Reverse Standoff (Typ): 5V (Max); Part Number: CPDQC5V0P-HF; Applications: General Purpose; ComponentLink1Description: Datasheet; ComponentLink1URL: http://www.comchiptech.com/admin/files/product/CPDQC5V0P-HF%20RevB453174.pdf; ComponentLink2Description: DigiKey Link; ComponentLink2URL: http://digikey.com/product-detail/en/comchip-technology/CPDQC5V0P-HF/641-1775-1-ND/6138939; Device Package: 0402 (1006 Metric); LastUpdated: 9/2/2020 1:28:49 AM; Lifecycle Status: Active; Minimum Order: 1; Mounting Type: Surface Mount; Operating Temperature: -40°C ~ 125°C (TJ); Package / Case: 0402 (1006 Metric); Packaging: CutTape; PartId: 10495; Part Status: Active; Price: 0.35; Series: -; Supplier 1: DigiKey; Supplier Part Number 1: 641-1775-1-ND; Supplier Device Package: 0402/SOD-923F; Voltage - Clamping (Max) @ Ipp: 17V
footprint 0402
pins: 1, 2

## CPDQC5V0R-HF
designator D?
TVS DIODE 5V 12V 0402C/SOD923F; Manufacturer: Comchip Technology; Bidirectional Channels: 1; Capacitance @ Frequency: 24pF @ 1MHz; Current - Peak Pulse (10/1000µs): 11A (8/20µs); Power Line Protection: No; Type: Zener; Voltage - Breakdown (Min): 5.6V; Voltage - Reverse Standoff (Typ): 5V (Max); Part Number: CPDQC5V0R-HF; Applications: General Purpose; ComponentLink1Description: Datasheet; ComponentLink1URL: http://www.comchiptech.com/admin/files/product/CPDxx5V0R-HF Series RevC661473.pdf; ComponentLink2Description: DigiKey Link; ComponentLink2URL: http://digikey.com/product-detail/en/comchip-technology/CPDQC5V0R-HF/641-1759-1-ND/5683892; Device Package: 0402 (1006 Metric); LastUpdated: 9/2/2020 1:28:49 AM; Lifecycle Status: Active; Minimum Order: 1; Mounting Type: Surface Mount; Operating Temperature: -40°C ~ 150°C (TJ); Package / Case: 0402 (1006 Metric); Packaging: TapeAndReel; PartId: 10467; Part Status: Active; Price: 0.06; Series: -; Supplier 1: DigiKey; Supplier Part Number 1: 641-1759-1-ND; Supplier Device Package: 0402/SOD-923F; Voltage - Clamping (Max) @ Ipp: 12V
footprint 0402
pins: 1, 2

## CPDQC5V0SC-HF
designator D?
ESD DIODE 5VWM 18VC BI-DIR 0402; Manufacturer: Comchip Technology; Bidirectional Channels: 1; Capacitance @ Frequency: 0.2pF @ 1MHz; Current - Peak Pulse (10/1000µs): 2A (8/20µs); Power Line Protection: No; Power - Peak Pulse: 36W; Type: Zener; Voltage - Breakdown (Min): 6V; Voltage - Clamping (Max) @ Ipp: 18V; Voltage - Reverse Standoff (Typ): 5V (Max); Part Number: CPDQC5V0SC-HF; Applications: General Purpose; ComponentLink1Description: Datasheet; ComponentLink1URL: http://www.comchiptech.com/admin/files/product/12023_20190319142714.pdf; ComponentLink2Description: DigiKey Link; ComponentLink2URL: http://digikey.com/product-detail/en/comchip-technology/CPDQC5V0SC-HF/641-2046-1-ND/10106897; Device Package: 0402 (1006 Metric); LastUpdated: 9/2/2020 1:28:48 AM; Lifecycle Status: Active; Minimum Order: 1; Mounting Type: Surface Mount; Operating Temperature: -55°C ~ 150°C (TJ); Package / Case: 0402 (1006 Metric); Packaging: TapeAndReel; PartId: 10420; Part Status: Active; Price: 0.05; Series: -; Supplier 1: DigiKey; Supplier Part Number 1: 641-2046-1-ND; Supplier Device Package: 0402C/SOD-923F
footprint 0402
pins: 1, 2

## CPDQC5V0USP-IPHF
designator D?
TVS DIODE 5V 15V 0402C/SOD923F; Manufacturer: Comchip Technology; Capacitance @ Frequency: 0.3pF @ 1MHz; Current - Peak Pulse (10/1000µs): 2.5A (8/20µs); Power Line Protection: No; Power - Peak Pulse: 30W; Type: Zener; Unidirectional Channels: 1; Voltage - Breakdown (Min): 6V; Voltage - Reverse Standoff (Typ): 5V (Max); Part Number: CPDQC5V0USP-IPHF; Applications: General Purpose; ComponentLink1Description: Datasheet; ComponentLink1URL: http://www.comchiptech.com/admin/files/product/CPDQC5V0USP-IPHF RevB675450.pdf; ComponentLink2Description: DigiKey Link; ComponentLink2URL: http://digikey.com/product-detail/en/comchip-technology/CPDQC5V0USP-IPHF/641-1760-1-ND/5683893; Device Package: 0402 (1006 Metric); LastUpdated: 9/2/2020 1:28:45 AM; Lifecycle Status: Active; Minimum Order: 1; Mounting Type: Surface Mount; Operating Temperature: -55°C ~ 150°C (TJ); Package / Case: 0402 (1006 Metric); Packaging: TapeAndReel; PartId: 10378; Part Status: Active; Price: 0.08; Series: -; Supplier 1: DigiKey; Supplier Part Number 1: 641-1760-1-ND; Supplier Device Package: 0402/SOD-923F; Voltage - Clamping (Max) @ Ipp: 15V
footprint 0402
pins: 1, 2

## CPDQC12V-HF
designator D?
ESD DIODE 12VWM 25VC BI-DIR 0402; Manufacturer: Comchip Technology; Bidirectional Channels: 1; Capacitance @ Frequency: 12pF @ 1MHz; Current - Peak Pulse (10/1000µs): 1A (8/20µs); Power Line Protection: No; Power - Peak Pulse: 25W; Type: Zener; Voltage - Breakdown (Min): 13V; Voltage - Clamping (Max) @ Ipp: 25V; Voltage - Reverse Standoff (Typ): 12V (Max); Part Number: CPDQC12V-HF; Applications: General Purpose; ComponentLink1Description: Datasheet; ComponentLink1URL: http://www.comchiptech.com/admin/files/product/12026_20190315101109.pdf; ComponentLink2Description: DigiKey Link; ComponentLink2URL: http://digikey.com/product-detail/en/comchip-technology/CPDQC12V-HF/641-2049-1-ND/10106900; Device Package: 0402 (1006 Metric); LastUpdated: 9/2/2020 1:28:49 AM; Lifecycle Status: Active; Minimum Order: 1; Mounting Type: Surface Mount; Operating Temperature: -40°C ~ 125°C (TJ); Package / Case: 0402 (1006 Metric); Packaging: TapeAndReel; PartId: 10479; Part Status: Active; Price: 0.08; Series: -; Supplier 1: DigiKey; Supplier Part Number 1: 641-2049-1-ND; Supplier Device Package: 0402C/SOD-923F
footprint 0402
pins: 1, 2

## CPDQC12VE-HF
designator D?
TVS DIODE 12V 23V 0402C/SOD923F; Manufacturer: Comchip Technology; Bidirectional Channels: 1; Capacitance @ Frequency: 30pF @ 1MHz; Current - Peak Pulse (10/1000µs): 5A (8/20µs); Power Line Protection: No; Power - Peak Pulse: 115W; Type: Zener; Voltage - Breakdown (Min): 14V; Voltage - Reverse Standoff (Typ): 12V (Max); Part Number: CPDQC12VE-HF; Applications: General Purpose; ComponentLink1Description: Datasheet; ComponentLink1URL: http://www.comchiptech.com/admin/files/product/CPDQC12VE-HF RevA675189.pdf; ComponentLink2Description: DigiKey Link; ComponentLink2URL: http://digikey.com/product-detail/en/comchip-technology/CPDQC12VE-HF/641-1890-1-ND/7100788; Device Package: 0402 (1006 Metric); LastUpdated: 9/2/2020 1:28:49 AM; Lifecycle Status: Active; Minimum Order: 1; Mounting Type: Surface Mount; Operating Temperature: -55°C ~ 125°C (TJ); Package / Case: 0402 (1006 Metric); Packaging: TapeAndReel; PartId: 10462; Part Status: Active; Price: 0.07; Series: -; Supplier 1: DigiKey; Supplier Part Number 1: 641-1890-1-ND; Supplier Device Package: 0402C/SOD-923F; Voltage - Clamping (Max) @ Ipp: 23V
footprint 0402
pins: 1, 2

## CPDQC12VEU-HF
designator D?
TVS DIODE 12V 22V 0402C/SOD923F; Manufacturer: Comchip Technology; Capacitance @ Frequency: 60pF @ 1MHz; Current - Peak Pulse (10/1000µs): 5A (8/20µs); Power Line Protection: No; Power - Peak Pulse: 110W; Type: Zener; Unidirectional Channels: 1; Voltage - Breakdown (Min): 13.5V; Voltage - Reverse Standoff (Typ): 12V (Max); Part Number: CPDQC12VEU-HF; Applications: General Purpose; ComponentLink1Description: Datasheet; ComponentLink1URL: //media.digikey.com/pdf/Data%20Sheets/Comchip%20PDFs/CPDQC12VEU-HF.pdf; ComponentLink2Description: DigiKey Link; ComponentLink2URL: http://digikey.com/product-detail/en/comchip-technology/CPDQC12VEU-HF/641-1772-1-ND/6138936; Device Package: 0402 (1006 Metric); LastUpdated: 9/2/2020 1:28:45 AM; Lifecycle Status: Active; Minimum Order: 1; Mounting Type: Surface Mount; Operating Temperature: -55°C ~ 125°C (TJ); Package / Case: 0402 (1006 Metric); Packaging: TapeAndReel; PartId: 10370; Part Status: Active; Price: 0.05; Series: -; Supplier 1: DigiKey; Supplier Part Number 1: 641-1772-1-ND; Supplier Device Package: 0402/SOD-923F; Voltage - Clamping (Max) @ Ipp: 22V
footprint 0402
pins: 1, 2

## CPDQC24VE-HF
designator D?
TVS DIODE 24V 46V 0402C/SOD923F; Manufacturer: Comchip Technology; Bidirectional Channels: 1; Capacitance @ Frequency: 13pF @ 1MHz; Current - Peak Pulse (10/1000µs): 3A (8/20µs); Power Line Protection: No; Power - Peak Pulse: 138W; Type: Zener; Voltage - Breakdown (Min): 26.5V; Voltage - Reverse Standoff (Typ): 24V (Max); Part Number: CPDQC24VE-HF; Applications: General Purpose; ComponentLink1Description: Datasheet; ComponentLink1URL: http://www.comchiptech.com/admin/files/product/CPDQC24VE-HF%20RevC717319.pdf; ComponentLink2Description: DigiKey Link; ComponentLink2URL: http://digikey.com/product-detail/en/comchip-technology/CPDQC24VE-HF/641-1891-1-ND/7100789; Device Package: 0402 (1006 Metric); LastUpdated: 9/2/2020 1:28:49 AM; Lifecycle Status: Active; Minimum Order: 1; Mounting Type: Surface Mount; Operating Temperature: -55°C ~ 125°C (TJ); Package / Case: 0402 (1006 Metric); Packaging: TapeAndReel; PartId: 10442; Part Status: Active; Price: 0.07; Series: -; Supplier 1: DigiKey; Supplier Part Number 1: 641-1891-1-ND; Supplier Device Package: 0402C/SOD-923F; Voltage - Clamping (Max) @ Ipp: 46V
footprint 0402
pins: 1, 2

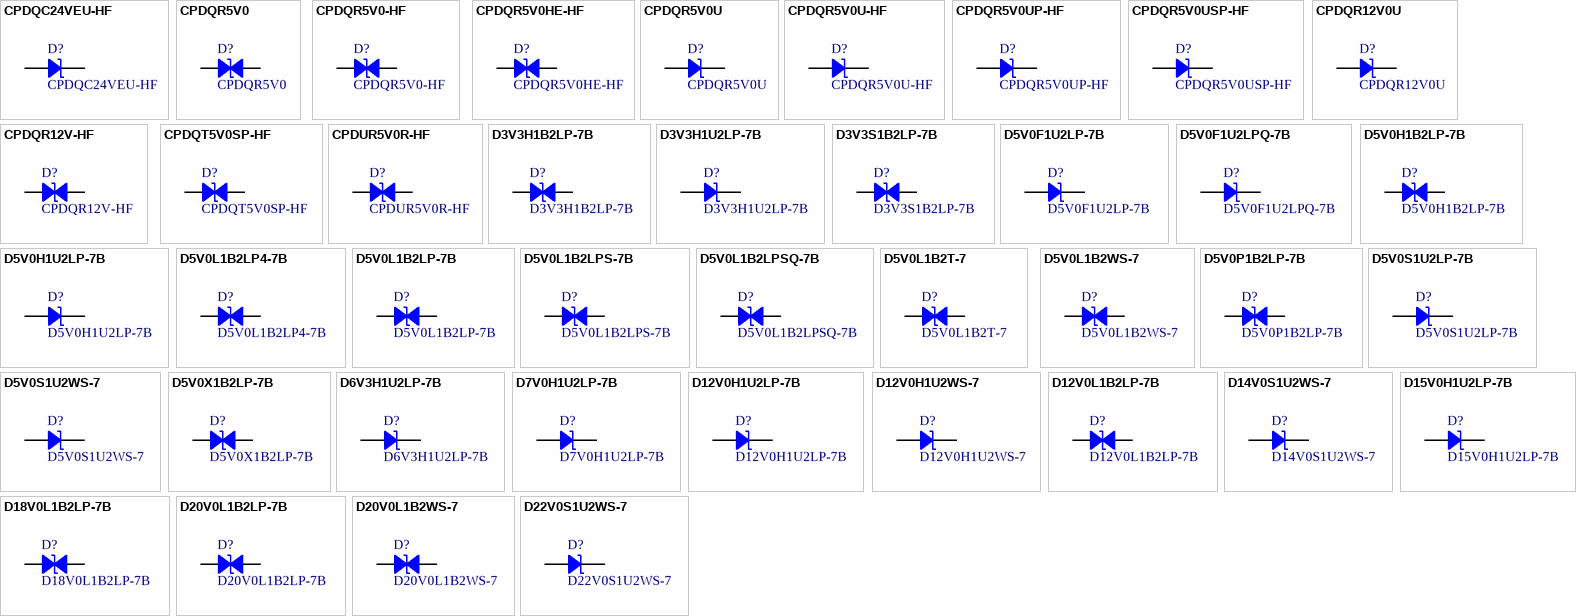
[diagram p22: symbols CPDQC24VEU-HF to D22V0S1U2WS-7]

## CPDQC24VEU-HF
designator D?
TVS DIODE 24V 42V 0402C/SOD923F; Manufacturer: Comchip Technology; Capacitance @ Frequency: 35pF @ 1MHz; Current - Peak Pulse (10/1000µs): 2.5A (8/20µs); Power Line Protection: No; Power - Peak Pulse: 105W; Type: Zener; Unidirectional Channels: 1; Voltage - Breakdown (Min): 26.5V; Voltage - Reverse Standoff (Typ): 24V (Max); Part Number: CPDQC24VEU-HF; Applications: General Purpose; ComponentLink1Description: Datasheet; ComponentLink1URL: //media.digikey.com/pdf/Data%20Sheets/Comchip%20PDFs/CPDQC24VEU-HF.pdf; ComponentLink2Description: DigiKey Link; ComponentLink2URL: http://digikey.com/product-detail/en/comchip-technology/CPDQC24VEU-HF/641-1773-1-ND/6138937; Device Package: 0402 (1006 Metric); LastUpdated: 9/2/2020 1:28:45 AM; Lifecycle Status: Active; Minimum Order: 1; Mounting Type: Surface Mount; Operating Temperature: -55°C ~ 125°C (TJ); Package / Case: 0402 (1006 Metric); Packaging: TapeAndReel; PartId: 10380; Part Status: Active; Price: 0.05; Series: -; Supplier 1: DigiKey; Supplier Part Number 1: 641-1773-1-ND; Supplier Device Package: 0402/SOD-923F; Voltage - Clamping (Max) @ Ipp: 42V
footprint 0402
pins: 1, 2

## CPDQR5V0
designator D?
TVS DIODE 5V 15V 0402/SOD923F; Manufacturer: Comchip Technology; Bidirectional Channels: 1; Capacitance @ Frequency: 15pF @ 1MHz; Current - Peak Pulse (10/1000µs): 5A (8/20µs); Power Line Protection: No; Power - Peak Pulse: 75W; Type: Zener; Voltage - Breakdown (Min): 5.1V; Part Number: CPDQR5V0; Applications: General Purpose; ComponentLink1Description: Datasheet; ComponentLink1URL: http://www.comchiptech.com/admin/files/product/CPDQR5V0-HF RevG339730.pdf; ComponentLink2Description: DigiKey Link; ComponentLink2URL: http://digikey.com/product-detail/en/comchip-technology/CPDQR5V0/641-1294-1-ND/1973573; Device Package: 0402 (1005 Metric); LastUpdated: 9/2/2020 1:28:49 AM; Lifecycle Status: Active; Minimum Order: 1; Mounting Type: Surface Mount; Package / Case: 0402 (1005 Metric); Packaging: TapeAndReel; PartId: 10476; Part Status: Active; Price: 0.11; Series: -; Supplier 1: DigiKey; Supplier Part Number 1: 641-1294-1-ND; Supplier Device Package: 0402/SOD-923F; Voltage - Clamping (Max) @ Ipp: 15V; Voltage - Reverse Standoff (Typ): 5V
footprint 0402
pins: 1, 2